# Altium schematic symbol library JST-GH.SchLib: 3 symbols
Pins are listed as number, name and electrical type; pins without a type are passive.

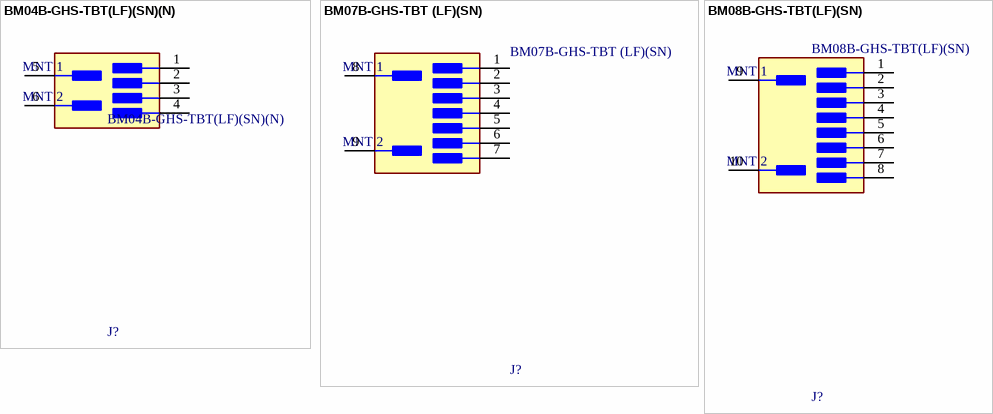
[diagram p0: symbols BM04B-GHS-TBT(LF)(SN)(N) to BM08B-GHS-TBT(LF)(SN)]

## BM04B-GHS-TBT(LF)(SN)(N)
designator J?
CONN HEADER SMD 4POS 1.25MM; Number of Positions: 4; Pitch: 0.049inch; Connector Type: Outer Shroud Contact; Termination: Solder; Number of Pins: 4; Color: Natural; Number of Rows: 1; Lead Free: Lead Free; Mount: Surface Mount; Contact Plating: Tin; Packaging: Tape and Reel; Fastening Type: Ramp
footprint FP-BM04B-GHS-TBT_LF_SN-MFG
pins: 1, 2, 3, 4, 5 MNT 1, 6 MNT 2

## BM07B-GHS-TBT (LF)(SN)
designator J?
CONN HEADER SMD 7POS 1.25MM; Wire/Cable Gauge: 26AWG; Number of Positions: 7; Voltage Rating (AC): 50V; Current Rating: 1A; Reach SVHC Compliant: Yes; Mount: Surface Mount; Packaging: Cut Tape; Series: GH; Number of Rows: 1; Max Operating Temperature: 85°C; Number of Contacts: 7; Housing Material: Nylon; Lead Free: Lead Free; Termination: SMD/SMT; Housing Color: Natural; Contact Plating: Tin; Contact Material: Bronze; Min Operating Temperature: -25°C; Pitch: 1.25mm
footprint FP-BM07B-GHS-TBT_LF_SN-MFG
pins: 1, 2, 3, 4, 5, 6, 7, 8 MNT 1, 9 MNT 2

## BM08B-GHS-TBT(LF)(SN)
designator J?
CONN HEADER SMD 8POS 1.25MM; NexarPartId: 289283; Current Rating: 1A; Voltage Rating (AC): 50V; Number of Positions: 8; Wire/Cable Gauge: 26AWG; Contact Plating: Tin; Min Operating Temperature: -25°C; Contact Material: Copper, Tin; Packaging: Cut Tape; Max Operating Temperature: 85°C; Pitch: 1.25mm; Termination: SMD/SMT; REACH SVHC: No SVHC; Lead Free: Lead Free; Housing Material: Nylon; Height: 4.2mm; Case/Package: SMD/SMT; Lead Pitch: 1.25mm; Housing Color: Natural; Voltage Rating: 50V; RoHS: Compliant; Orientation: Straight; Number of Rows: 1; Number of Contacts: 8
footprint FP-BM08B-GHS-TBT_LF_SN-MFG
pins: 1, 2, 3, 4, 5, 6, 7, 8, 9 MNT 1, 10 MNT 2